# Altium footprint library DE-020717.PcbLib: 33 footprints (part 2 of 3)
Each footprint in its own frame and in the unit in brackets; x right, y up, seen from the top. Pads: shape width x height; smd on the part's side, far side on the other; paste and mask are expansions set on the pad; w line width, h text height; cw(c..) or ccw(c..) is an arc to the next point about the centre after c.
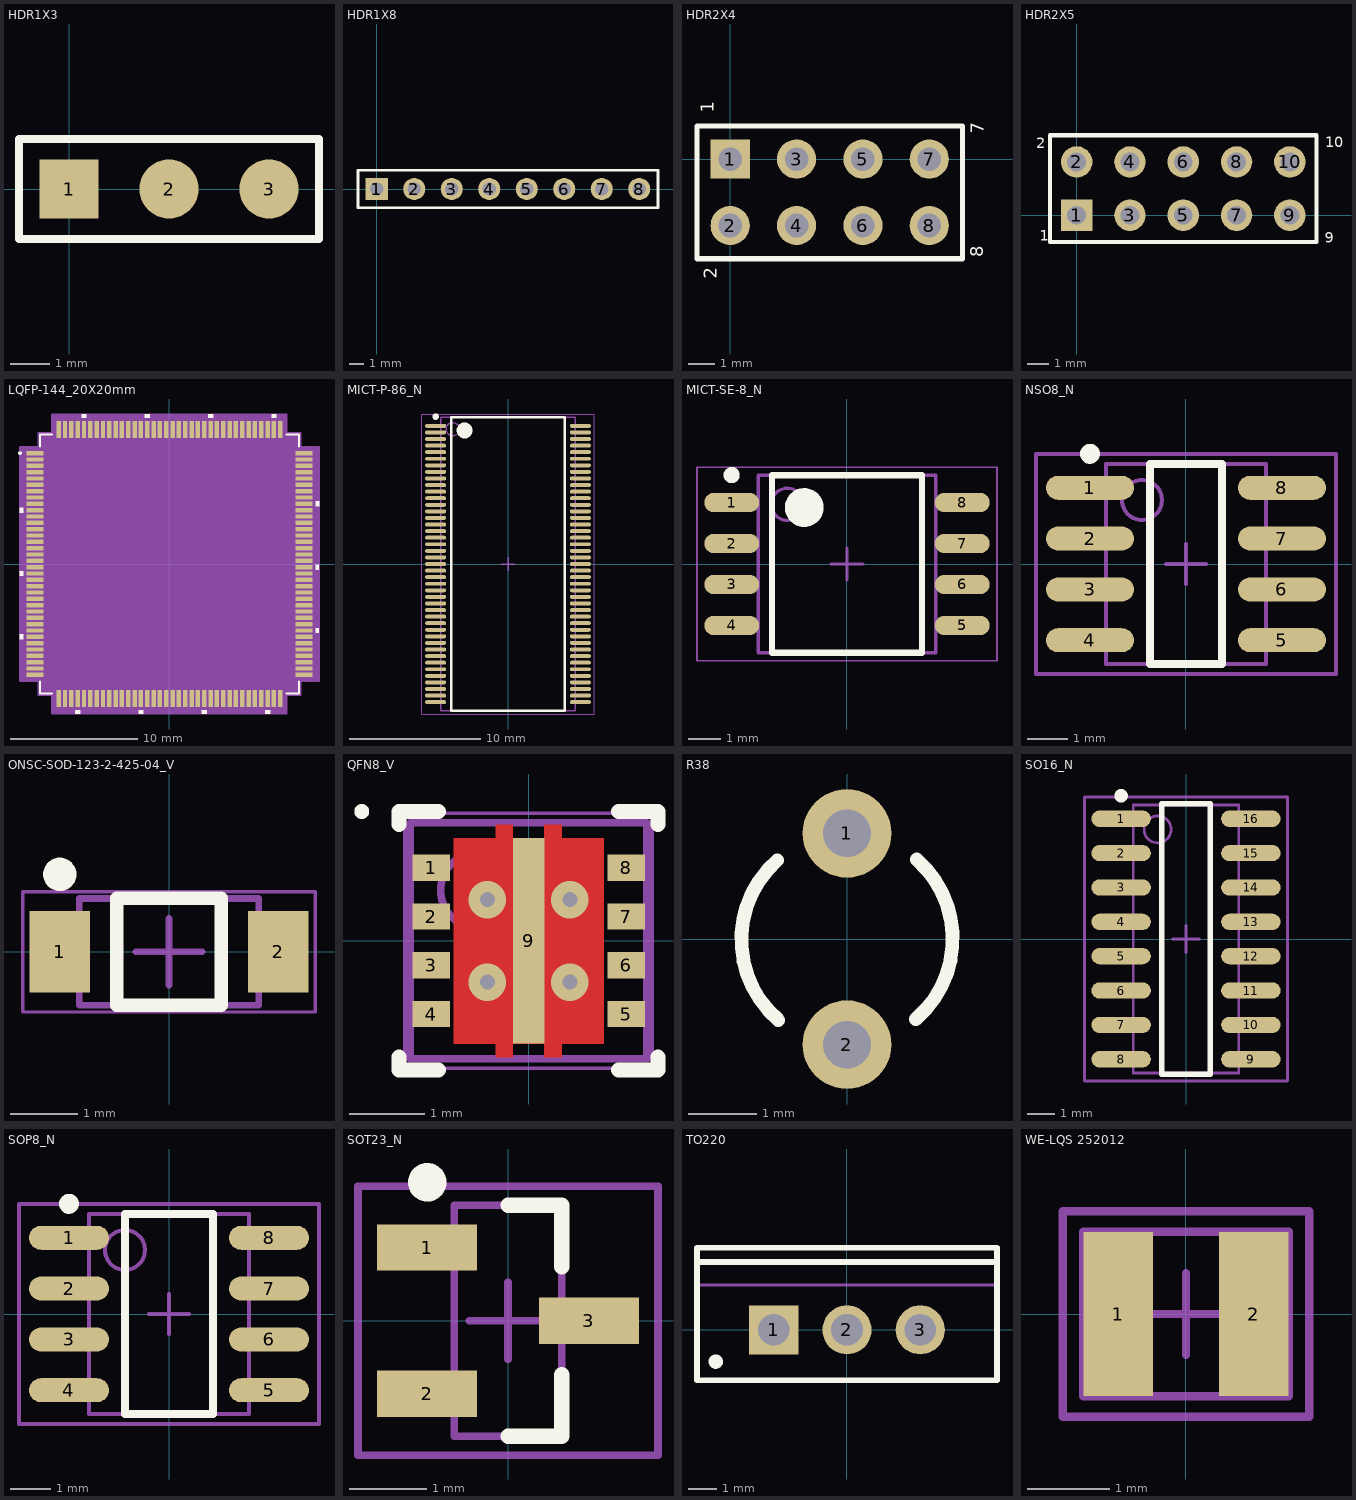
[diagram p1: the footprints below, top view; thin cyan lines are the x and y axes]

## HDR1X3 [mm] "Connector; Header; 3 Position"
pads (3):
  rect 1.5x1.5 smd: 1(0,0)
  round 1.5 smd: 2(2.54,0) 3(5.08,0)
Top Overlay:
  lines w0.2: -1.27,-1.27 -1.27,1.27 6.35,1.27 6.35,-1.27 -1.27,-1.27

## HDR1X8 [mm] "Connector; Header; 8 Position"
height 6
pads (8):
  rect 1.5x1.5 hole 0.9: 1(0,0)
  round 1.5 hole 0.9: 2(2.54,0) 3(5.08,0) 4(7.62,0) 5(10.16,0) 6(12.7,0) 7(15.24,0) 8(17.78,0)
Top Overlay:
  lines w0.2: -1.27,-1.27 19.05,-1.27 19.05,1.27 -1.27,1.27 -1.27,-1.27
3D body: height 6, standoff 0, extent -1.37,-1.37 19.15,1.37

## HDR2X4 [mm] "Connector; Header; 4x2 Position"
height 6
pads (8):
  rect 1.5x1.5 hole 0.9: 1(0,0)
  round 1.5 hole 0.9: 2(0,-2.54) 3(2.54,0) 4(2.54,-2.54) 5(5.08,0) 6(5.08,-2.54) 7(7.62,0) 8(7.62,-2.54)
Top Overlay:
  lines w0.2: -1.27,-3.81 8.89,-3.81 8.89,1.27 -1.27,1.27 -1.27,-3.81
  text "2" at -0.508,-4.572 h0.51
  text "1" at -0.635,1.778 h0.51
  text "7" at 9.703,0.965 h0.51
  text "8" at 9.677,-3.759 h0.51
3D body: height 6, standoff 0, extent -1.37,-3.91 8.99,1.37

## HDR2X5 [mm] "Connector; Header; 5x2 Position"
height 6
pads (10):
  rect 1.5x1.5 hole 0.9: 1(0,0)
  round 1.5 hole 0.9: 2(0,2.54) 3(2.54,0) 4(2.54,2.54) 5(5.08,0) 6(5.08,2.54) 7(7.62,0) 8(7.62,2.54) 9(10.16,0) 10(10.16,2.54)
Top Overlay:
  lines w0.2: -1.27,-1.27 -1.27,3.81 11.43,3.81 11.43,-1.27 -1.27,-1.27
  text "2" at -1.94,3.197 h0.51
  text "1" at -1.76,-1.221 h0.51
  text "9" at 11.836,-1.311 h0.51
  text "10" at 11.854,3.233 h0.51
3D body: height 6, standoff 0, extent -1.37,-1.37 11.53,3.91

## LQFP-144_20X20mm [mm] "STM32F746ZET ARM Cortex M7 microcontroller"
height 0.002
pads (144):
  rect 1.35x0.35 smd: 1(-10.625,8.75) 2(-10.625,8.25) 3(-10.625,7.75) 4(-10.625,7.25) 5(-10.625,6.75) 6(-10.625,6.25) 7(-10.625,5.75) 8(-10.625,5.25) 9(-10.625,4.75) 10(-10.625,4.25) 11(-10.625,3.75) 12(-10.625,3.25) 13(-10.625,2.75) 14(-10.625,2.25) 15(-10.625,1.75) 16(-10.625,1.25) 17(-10.625,0.75) 18(-10.625,0.25) 19(-10.625,-0.25) 20(-10.625,-0.75) 21(-10.625,-1.25) 22(-10.625,-1.75) 23(-10.625,-2.25) 24(-10.625,-2.75) 25(-10.625,-3.25) 26(-10.625,-3.75) 27(-10.625,-4.25) 28(-10.625,-4.75) 29(-10.625,-5.25) 30(-10.625,-5.75) 31(-10.625,-6.25) 32(-10.625,-6.75) 33(-10.625,-7.25) 34(-10.625,-7.75) 35(-10.625,-8.25) 36(-10.625,-8.75) 73(10.625,-8.75) 74(10.625,-8.25) 75(10.625,-7.75) 76(10.625,-7.25) 77(10.625,-6.75) 78(10.625,-6.25) 79(10.625,-5.75) 80(10.625,-5.25) 81(10.625,-4.75) 82(10.625,-4.25) 83(10.625,-3.75) 84(10.625,-3.25) 85(10.625,-2.75) 86(10.625,-2.25) 87(10.625,-1.75) 88(10.625,-1.25) 89(10.625,-0.75) 90(10.625,-0.25) 91(10.625,0.25) 92(10.625,0.75) 93(10.625,1.25) 94(10.625,1.75) 95(10.625,2.25) 96(10.625,2.75) 97(10.625,3.25) 98(10.625,3.75) 99(10.625,4.25) 100(10.625,4.75) 101(10.625,5.25) 102(10.625,5.75) 103(10.625,6.25) 104(10.625,6.75) 105(10.625,7.25) 106(10.625,7.75) 107(10.625,8.25) 108(10.625,8.75)
  rect 0.35x1.35 smd: 37(-8.75,-10.625) 38(-8.25,-10.625) 39(-7.75,-10.625) 40(-7.25,-10.625) 41(-6.75,-10.625) 42(-6.25,-10.625) 43(-5.75,-10.625) 44(-5.25,-10.625) 45(-4.75,-10.625) 46(-4.25,-10.625) 47(-3.75,-10.625) 48(-3.25,-10.625) 49(-2.75,-10.625) 50(-2.25,-10.625) 51(-1.75,-10.625) 52(-1.25,-10.625) 53(-0.75,-10.625) 54(-0.25,-10.625) 55(0.25,-10.625) 56(0.75,-10.625) 57(1.25,-10.625) 58(1.75,-10.625) 59(2.25,-10.625) 60(2.75,-10.625) 61(3.25,-10.625) 62(3.75,-10.625) 63(4.25,-10.625) 64(4.75,-10.625) 65(5.25,-10.625) 66(5.75,-10.625) 67(6.25,-10.625) 68(6.75,-10.625) 69(7.25,-10.625) 70(7.75,-10.625) 71(8.25,-10.625) 72(8.75,-10.625) 109(8.75,10.625) 110(8.25,10.625) 111(7.75,10.625) 112(7.25,10.625) 113(6.75,10.625) 114(6.25,10.625) 115(5.75,10.625) 116(5.25,10.625) 117(4.75,10.625) 118(4.25,10.625) 119(3.75,10.625) 120(3.25,10.625) 121(2.75,10.625) 122(2.25,10.625) 123(1.75,10.625) 124(1.25,10.625) 125(0.75,10.625) 126(0.25,10.625) 127(-0.25,10.625) 128(-0.75,10.625) 129(-1.25,10.625) 130(-1.75,10.625) 131(-2.25,10.625) 132(-2.75,10.625) 133(-3.25,10.625) 134(-3.75,10.625) 135(-4.25,10.625) 136(-4.75,10.625) 137(-5.25,10.625) 138(-5.75,10.625) 139(-6.25,10.625) 140(-6.75,10.625) 141(-7.25,10.625) 142(-7.75,10.625) 143(-8.25,10.625) 144(-8.75,10.625)
Top Overlay:
  circle w0.152: c-11.804,8.75 r0.076
  region: -11.554,4.44 -11.808,4.44 -11.808,4.059 -11.554,4.059
  region: -11.554,-0.56 -11.808,-0.56 -11.808,-0.941 -11.554,-0.941
  region: -11.554,-5.56 -11.808,-5.56 -11.808,-5.941 -11.554,-5.941
  region: -7.06,-11.554 -7.441,-11.554 -7.441,-11.808 -7.06,-11.808
  region: -2.06,-11.554 -2.441,-11.554 -2.441,-11.808 -2.06,-11.808
  region: 2.94,-11.554 2.559,-11.554 2.559,-11.808 2.94,-11.808
  region: 7.94,-11.554 7.559,-11.554 7.559,-11.808 7.94,-11.808
  region: 11.554,-5.059 11.808,-5.059 11.808,-5.44 11.554,-5.44
  region: 11.554,-0.059 11.808,-0.059 11.808,-0.44 11.554,-0.44
  region: 11.554,4.941 11.808,4.941 11.808,4.56 11.554,4.56
  region: 8.441,11.554 8.06,11.554 8.06,11.808 8.441,11.808
  region: 3.441,11.554 3.06,11.554 3.059,11.808 3.44,11.808
  region: -1.559,11.554 -1.94,11.554 -1.94,11.808 -1.559,11.808
  region: -6.559,11.554 -6.94,11.554 -6.941,11.808 -6.56,11.808
  lines w0.152: -10.227,-9.258 -10.227,-10.227 -9.258,-10.227 ; -10.227,9.258 -10.227,10.227 -9.258,10.227 ; 9.258,-10.227 10.227,-10.227 10.227,-9.258 ; 9.258,10.227 10.227,10.227 10.227,9.258
Mechanical 13:
  circle w0: c-9.315,8.75 r0.076
Mechanical 15:
  region: -9.258,-10.354 -10.354,-10.354 -10.354,-9.258 -11.808,-9.258 -11.808,9.258 -10.354,9.258 -10.354,10.354 -9.258,10.354 -9.258,11.808 9.258,11.808 9.258,10.354 10.354,10.354 10.354,9.258 11.808,9.258 11.808,-9.258 10.354,-9.258 10.354,-10.354 9.258,-10.354 9.258,-11.808 -9.258,-11.808
  lines w0.152: -11.808,-9.258 -10.354,-9.258 -10.354,-10.354 -9.258,-10.354 -9.258,-11.808 9.258,-11.808 9.258,-10.354 10.354,-10.354 10.354,-9.258 11.808,-9.258 11.808,9.258 10.354,9.258 10.354,10.354 9.258,10.354 9.258,11.808 -9.258,11.808 -9.258,10.354 -10.354,10.354 -10.354,9.258 -11.808,9.258 -11.808,-9.258
3D body: height 0, standoff 0, extent -11.956,-11.884 11.884,11.884

## MICT-P-86_N [mm] "SOP, 86-Leads, Body 22.22x10.6mm, Pitch 0.5mm, , IPC Medium Density"
height 1.2
pads (86):
  oval 1.6x0.3 smd: 1(-5.5,10.5) 2(-5.5,10) 3(-5.5,9.5) 4(-5.5,9) 5(-5.5,8.5) 6(-5.5,8) 7(-5.5,7.5) 8(-5.5,7) 9(-5.5,6.5) 10(-5.5,6) 11(-5.5,5.5) 12(-5.5,5) 13(-5.5,4.5) 14(-5.5,4) 15(-5.5,3.5) 16(-5.5,3) 17(-5.5,2.5) 18(-5.5,2) 19(-5.5,1.5) 20(-5.5,1) 21(-5.5,0.5) 22(-5.5,0) 23(-5.5,-0.5) 24(-5.5,-1) 25(-5.5,-1.5) 26(-5.5,-2) 27(-5.5,-2.5) 28(-5.5,-3) 29(-5.5,-3.5) 30(-5.5,-4) 31(-5.5,-4.5) 32(-5.5,-5) 33(-5.5,-5.5) 34(-5.5,-6) 35(-5.5,-6.5) 36(-5.5,-7) 37(-5.5,-7.5) 38(-5.5,-8) 39(-5.5,-8.5) 40(-5.5,-9) 41(-5.5,-9.5) 42(-5.5,-10) 43(-5.5,-10.5) 44(5.5,-10.5) 45(5.5,-10) 46(5.5,-9.5) 47(5.5,-9) 48(5.5,-8.5) 49(5.5,-8) 50(5.5,-7.5) 51(5.5,-7) 52(5.5,-6.5) 53(5.5,-6) 54(5.5,-5.5) 55(5.5,-5) 56(5.5,-4.5) 57(5.5,-4) 58(5.5,-3.5) 59(5.5,-3) 60(5.5,-2.5) 61(5.5,-2) 62(5.5,-1.5) 63(5.5,-1) 64(5.5,-0.5) 65(5.5,0) 66(5.5,0.5) 67(5.5,1) 68(5.5,1.5) 69(5.5,2) 70(5.5,2.5) 71(5.5,3) 72(5.5,3.5) 73(5.5,4) 74(5.5,4.5) 75(5.5,5) 76(5.5,5.5) 77(5.5,6) 78(5.5,6.5) 79(5.5,7) 80(5.5,7.5) 81(5.5,8) 82(5.5,8.5) 83(5.5,9) 84(5.5,9.5) 85(5.5,10) 86(5.5,10.5)
Top Overlay:
  circle w0.25: c-5.5,11.2 r0.125
  circle w0.6: c-3.3,10.15 r0.3
  lines w0.2: -4.3,-11.15 -4.3,11.15 4.3,11.15 4.3,-11.15 -4.3,-11.15
Mechanical 13:
  circle w0.1: c-4.2,10.25 r0.5
  lines w0.1: -5.1,-11.15 -5.1,11.15 5.1,11.15 5.1,-11.15 -5.1,-11.15
Mechanical 15:
  lines w0.05: -6.55,-11.4 -6.55,11.4 6.55,11.4 6.55,-11.4 -6.55,-11.4
  lines w0.1: -0.5,0 0.5,0 ; 0,-0.5 0,0.5
3D body: height 1.2, standoff 0, extent -6.575,-11.425 6.575,11.45

## MICT-SE-8_N [mm] "SOIC, 8-Leads, Body 5.5x5.5mm, Pitch 1.27mm, IPC Medium Density"
height 6
pads (8):
  oval 1.7x0.6 smd: 1(-3.575,1.905) 2(-3.575,0.635) 3(-3.575,-0.635) 4(-3.575,-1.905) 5(3.575,-1.905) 6(3.575,-0.635) 7(3.575,0.635) 8(3.575,1.905)
Top Overlay:
  circle w0.6: c-1.325,1.75 r0.3
  circle w0.25: c-3.575,2.755 r0.125
  lines w0.2: -2.325,-2.75 2.325,-2.75 2.325,2.75 -2.325,2.75 -2.325,-2.75
Mechanical 13:
  circle w0.1: c-1.85,1.85 r0.5
  lines w0.1: -2.75,-2.75 2.75,-2.75 2.75,2.75 -2.75,2.75 -2.75,-2.75
Mechanical 15:
  lines w0.05: -4.65,-3 4.65,-3 4.65,3 -4.65,3 -4.65,-3
  lines w0.1: -0.5,0 0.5,0 ; 0,-0.5 0,0.5
3D body: height 6, standoff 0, extent -4.675,-3.025 4.675,3.025

## NSO8_N [mm] "SOIC, 8-Leads, Body 4.9x3.9mm, Pitch 1.27mm, IPC Medium Density"
height 1.75
pads (8):
  oval 2.2x0.6 smd: 1(-2.4,1.905) 2(-2.4,0.635) 3(-2.4,-0.635) 4(-2.4,-1.905) 5(2.4,-1.905) 6(2.4,-0.635) 7(2.4,0.635) 8(2.4,1.905)
Top Overlay:
  circle w0.25: c-2.4,2.755 r0.125
  lines w0.2: -0.9,-2.5 -0.9,2.5 0.9,2.5 0.9,-2.5 -0.9,-2.5
Mechanical 13:
  circle w0.1: c-1.1,1.6 r0.5
  lines w0.1: -2,-2.5 -2,2.5 2,2.5 2,-2.5 -2,-2.5
Mechanical 15:
  lines w0.1: -0.5,0 0.5,0 ; 0,-0.5 0,0.5 ; -3.75,-2.75 -3.75,2.75 3.75,2.75 3.75,-2.75 -3.75,-2.75
3D body: height 1.75, standoff 0, extent -2,-2.5 2,2.5

## ONSC-SOD-123-2-425-04_V [mm] "SOD, 2-Leads, Body 2.69x1.6mm"
height 1.35
pads (2):
  rect 0.91x1.22 smd: 1(-1.635,0) 2(1.635,0)
Top Overlay:
  circle w0.25: c-1.635,1.16 r0.125
  lines w0.2: -0.78,-0.8 0.78,-0.8 0.78,0.8 -0.78,0.8 -0.78,-0.8
Mechanical 13:
  lines w0.1: -1.345,-0.8 1.345,-0.8 1.345,0.8 -1.345,0.8 -1.345,-0.8
Mechanical 15:
  lines w0.05: -2.19,-0.9 2.19,-0.9 2.19,0.9 -2.19,0.9 -2.19,-0.9
  lines w0.1: -0.5,0 0.5,0 ; 0,-0.5 0,0.5
3D body: height 1.35, standoff 0, extent -1.345,-0.8 1.345,0.8

## QFN8_V [mm] "SON, 8-Leads, Body 3x3mm, Pitch 0.65mm, Thermal Pad 2.74x2mm, ST Recommended"
height 1
pads (9):
  rect 0.5x0.35 smd: 1(-1.3,0.975) 2(-1.3,0.325) 3(-1.3,-0.325) 4(-1.3,-0.975) 5(1.3,-0.975) 6(1.3,-0.325) 7(1.3,0.325) 8(1.3,0.975)
  rect 0.42x2.74 smd paste+0 mask+0: 9(0,0)
via -0.55,0.55 diameter 0.5 hole 0.2
via 0.55,0.55 diameter 0.5 hole 0.2
via -0.55,-0.55 diameter 0.5 hole 0.2
via 0.55,-0.55 diameter 0.5 hole 0.2
Top Layer:
  region: -0.44,-1.55 -0.44,-1.37 -1,-1.37 -1,1.37 -0.44,1.37 -0.44,1.55 -0.21,1.55 -0.21,1.37 0.21,1.37 0.21,1.55 0.44,1.55 0.44,1.37 1,1.37 1,-1.37 0.44,-1.37 0.44,-1.55 0.21,-1.55 0.21,-1.37 -0.21,-1.37 -0.21,-1.55
Top Overlay:
  circle w0.1: c-2.225,1.725 r0.05
  lines w0.2: -1.725,-1.55 -1.725,-1.725 -1.2,-1.725 ; -1.725,1.55 -1.725,1.725 -1.2,1.725 ; 1.2,-1.725 1.725,-1.725 1.725,-1.55 ; 1.2,1.725 1.725,1.725 1.725,1.55
Mechanical 13:
  circle w0.1: c-0.675,0.675 r0.5
  lines w0.1: -1.575,-1.575 -1.575,1.575 1.575,1.575 1.575,-1.575 -1.575,-1.575
Mechanical 15:
  lines w0.05: -1.65,-1.7 -1.65,1.7 1.65,1.7 1.65,-1.7 -1.65,-1.7
  lines w0.1: -0.5,0 0.5,0 ; 0,-0.5 0,0.5
3D body: height 1, standoff 0, extent -1.575,-1.575 1.575,1.575

## R38 [mm] "Crystal, Thru-Hole; 2 Leads; Body 3.1 x 8.2 mm (Dia.xH)"
height 8.2
pads (2):
  round 1.3 hole 0.7: 1(0,1.55) 2(0,-1.55)
Top Overlay:
  lines w0.2: -1.022,1.155 ccw(c0,-0.01) -1.006,-1.189 ; 1.006,-1.179 ccw(c0,0) 1.022,1.165

## SO16_N [mm] "SOIC, 16-Leads, Body 9.9x3.9mm, Pitch 1.27mm, IPC Medium Density"
height 1.75
pads (16):
  oval 2.2x0.6 smd: 1(-2.4,4.445) 2(-2.4,3.175) 3(-2.4,1.905) 4(-2.4,0.635) 5(-2.4,-0.635) 6(-2.4,-1.905) 7(-2.4,-3.175) 8(-2.4,-4.445) 9(2.4,-4.445) 10(2.4,-3.175) 11(2.4,-1.905) 12(2.4,-0.635) 13(2.4,0.635) 14(2.4,1.905) 15(2.4,3.175) 16(2.4,4.445)
Top Overlay:
  circle w0.25: c-2.4,5.295 r0.125
  lines w0.2: -0.9,-5 -0.9,5 0.9,5 0.9,-5 -0.9,-5
Mechanical 13:
  circle w0.1: c-1.05,4.05 r0.5
  lines w0.1: -1.95,-4.95 -1.95,4.95 1.95,4.95 1.95,-4.95 -1.95,-4.95
Mechanical 15:
  lines w0.1: -0.5,0 0.5,0 ; 0,-0.5 0,0.5 ; -3.75,-5.25 -3.75,5.25 3.75,5.25 3.75,-5.25 -3.75,-5.25
3D body: height 1.75, standoff 0, extent -1.95,-4.95 1.95,4.95

## SOP8_N [mm] "SOIC, 8-Leads, Body 4.9x3.9mm, Pitch 1.27mm, IPC Medium Density"
height 1.75
pads (8):
  oval 2x0.6 smd: 1(-2.5,1.905) 2(-2.5,0.635) 3(-2.5,-0.635) 4(-2.5,-1.905) 5(2.5,-1.905) 6(2.5,-0.635) 7(2.5,0.635) 8(2.5,1.905)
Top Overlay:
  circle w0.25: c-2.5,2.755 r0.125
  lines w0.2: -1.1,-2.5 -1.1,2.5 1.1,2.5 1.1,-2.5 -1.1,-2.5
Mechanical 13:
  circle w0.1: c-1.1,1.6 r0.5
  lines w0.1: -2,-2.5 -2,2.5 2,2.5 2,-2.5 -2,-2.5
Mechanical 15:
  lines w0.1: -0.5,0 0.5,0 ; 0,-0.5 0,0.5 ; -3.75,-2.75 -3.75,2.75 3.75,2.75 3.75,-2.75 -3.75,-2.75
3D body: height 1.75, standoff 0, extent -2,-2.5 2,2.5

## SOT23_N [mm] "SOT23, 3-Leads, Body 2.9x1.3mm, Pitch 0.95mm, Lead Span 2.3mm, IPC Medium Density"
height 1.1
pads (3):
  rect 1.3x0.6 smd: 1(-1.05,0.95) 2(-1.05,-0.95) 3(1.05,0)
Top Overlay:
  circle w0.25: c-1.05,1.8 r0.125
  lines w0.2: 0,-1.5 0.7,-1.5 0.7,-0.7 ; 0,1.5 0.7,1.5 0.7,0.7
Mechanical 13:
  lines w0.1: -0.7,-1.5 -0.7,1.5 0.7,1.5 0.7,-1.5 -0.7,-1.5
Mechanical 15:
  lines w0.1: -0.5,0 0.5,0 ; 0,-0.5 0,0.5 ; -1.95,-1.75 -1.95,1.75 1.95,1.75 1.95,-1.75 -1.95,-1.75
3D body: height 1.1, standoff 0, extent -0.7,-1.5 0.7,1.5

## TO220 [mm] "TO, Thru-Hole, Vertical, Heatsink Mounted; 3 In-Line Leads; Pitch 2.54 mm"
height 19.7
pads (3):
  rect 1.7x1.7 hole 1.1: 1(-2.54,0)
  round 1.7 hole 1.1: 2(0,0) 3(2.54,0)
Top Overlay:
  circle w0.25: c-4.55,-1.1 r0.125
  lines w0.2: -5.2,2.35 5.2,2.35 ; -5.2,-1.75 -5.2,2.85 5.2,2.85 5.2,-1.75 -5.2,-1.75
Mechanical 13:
  lines w0.1: -5.2,1.55 5.2,1.55 ; -5.2,-1.75 5.2,-1.75 5.2,2.85 -5.2,2.85 -5.2,-1.75
Mechanical 15:
  lines w0.1: -0.5,0 0.5,0 ; 0,-0.5 0,0.5
3D body: height 19.7, standoff 13.05, extent -5.199,1.551 5.2,2.849
3D body: height 13.05, standoff 3.5, extent -5.25,-1.8 5.25,2.9

## WE-LQS 252012 [mm] "SMD Power Inductor, 2-Leads, Body 2.5x2.0mm"
height 1.2
pads (2):
  rect 0.85x2 smd: 1(-0.825,0) 2(0.825,0)
Mechanical 13:
  lines w0.1: -1.25,-1 1.25,-1 1.25,1 -1.25,1 -1.25,-1
Mechanical 15:
  lines w0.1: -0.5,0 0.5,0 ; 0,-0.5 0,0.5 ; -1.5,-1.25 1.5,-1.25 1.5,1.25 -1.5,1.25 -1.5,-1.25
3D body: height 1.2, standoff 0, extent -1.55,-1.3 1.55,1.3